# EAGLE library part 87760-38_S (library con-molex-milli-grid)
HEADER
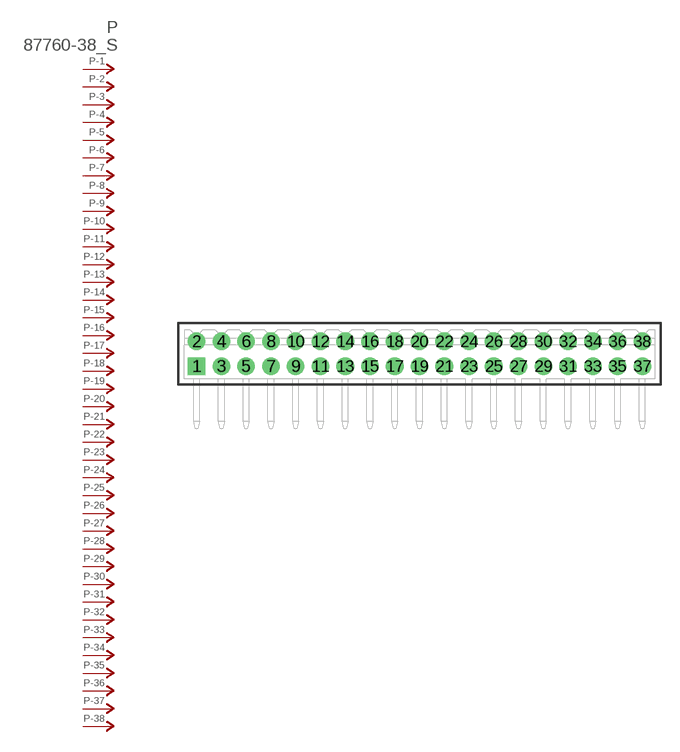
[diagram p397: symbol with the pads of 87760-38; footprint 87760-38]

Designator prefix P; gates -1=P-NV -2=P-N -3=P-N -4=P-N -5=P-N -6=P-N -7=P-N -8=P-N -9=P-N -10=P-N -11=P-N -12=P-N -13=P-N -14=P-N -15=P-N -16=P-N -17=P-N -18=P-N -19=P-N -20=P-N -21=P-N -22=P-N -23=P-N -24=P-N -25=P-N -26=P-N -27=P-N -28=P-N -29=P-N -30=P-N -31=P-N -32=P-N -33=P-N -34=P-N -35=P-N -36=P-N -37=P-N -38=P-N

## 87760-38_S  [87760-38]
1  -1:P  pas
2  -2:P  pas
3  -3:P  pas
4  -4:P  pas
5  -5:P  pas
6  -6:P  pas
7  -7:P  pas
8  -8:P  pas
9  -9:P  pas
10  -10:P  pas
11  -11:P  pas
12  -12:P  pas
13  -13:P  pas
14  -14:P  pas
15  -15:P  pas
16  -16:P  pas
17  -17:P  pas
18  -18:P  pas
19  -19:P  pas
20  -20:P  pas
21  -21:P  pas
22  -22:P  pas
23  -23:P  pas
24  -24:P  pas
25  -25:P  pas
26  -26:P  pas
27  -27:P  pas
28  -28:P  pas
29  -29:P  pas
30  -30:P  pas
31  -31:P  pas
32  -32:P  pas
33  -33:P  pas
34  -34:P  pas
35  -35:P  pas
36  -36:P  pas
37  -37:P  pas
38  -38:P  pas

## Footprint 87760-38 (pad centres in mm)
HEADER Dual Row, Right Angle
drill 0.914 square: 1 -18,-1
drill 0.914: 2 -18,1; 3 -16,-1; 4 -16,1; 5 -14,-1; 6 -14,1; 7 -12,-1; 8 -12,1; 9 -10,-1; 10 -10,1; 11 -8,-1; 12 -8,1; 13 -6,-1; 14 -6,1; 15 -4,-1; 16 -4,1; 17 -2,-1; 18 -2,1; 19 0,-1; 20 0,1; 21 2,-1; 22 2,1; 23 4,-1; 24 4,1; 25 6,-1; 26 6,1; 27 8,-1; 28 8,1; 29 10,-1; 30 10,1; 31 12,-1; 32 12,1; 33 14,-1; 34 14,1; 35 16,-1; 36 16,1; 37 18,-1; 38 18,1